# Altium schematic symbol library RC0603FR-072K32L.SchLib: 2 symbols
Pins are listed as number, name and electrical type; pins without a type are passive.

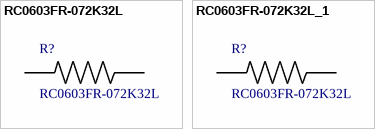
[diagram p0: symbols RC0603FR-072K32L to RC0603FR-072K32L_1]

## RC0603FR-072K32L
designator R?
/ RC Series 0603 0.1 W 2.32 kOhms 1% Â±100 ppm/Â°C SMT Thick Film Chip Resistor /; MF: Yageo; MP: RC0603FR-072K32L; Availability: Unavailable; SnapEDA_Link: https://www.snapeda.com/parts/RC0603FR-072K32L/Yageo/view-part/?ref=snap; Package: 1608 Yageo; Price: None; Value: *
footprint *RESC1608X55N
pins: 1, 2

## RC0603FR-072K32L_1
designator R?, comment RC0603FR-072K32L
/ RC Series 0603 0.1 W 2.32 kOhms 1% Â±100 ppm/Â°C SMT Thick Film Chip Resistor /; MF: Yageo; MP: RC0603FR-072K32L; Availability: Unavailable; SnapEDA_Link: https://www.snapeda.com/parts/RC0603FR-072K32L/Yageo/view-part/?ref=snap; Package: 1608 Yageo; Price: None; Value: *
footprint *RESC1608X55N
pins: 1, 2